# Altium footprint library son.PcbLib: 4 footprints
Each footprint in its own frame and in the unit in brackets; x right, y up, seen from the top. Pads: shape width x height; smd on the part's side, far side on the other; paste and mask are expansions set on the pad; w line width, h text height; cw(c..) or ccw(c..) is an arc to the next point about the centre after c.
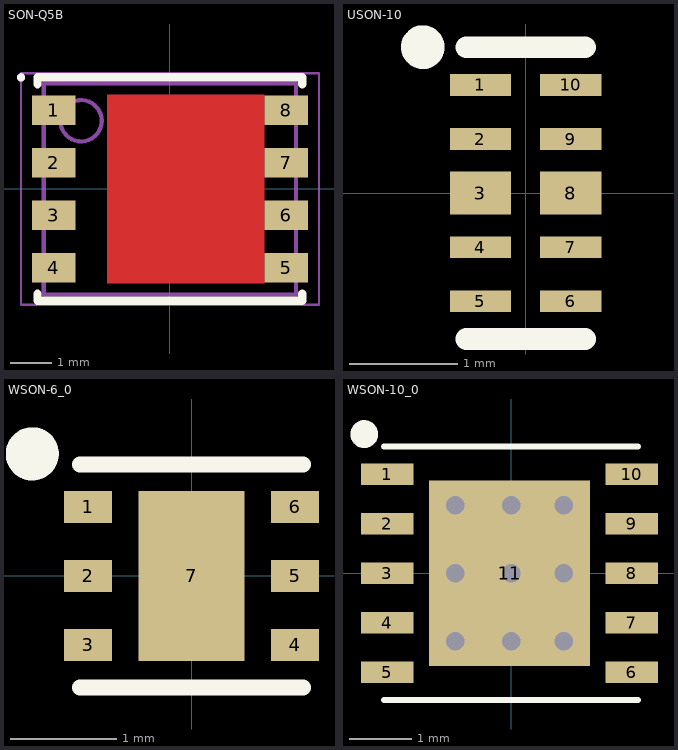
[diagram p0: the footprints below, top view; thin cyan lines are the x and y axes]

## SON-Q5B [mm] "SON, 8-Leads, Body 5.00x6.00mm, Pitch 1.27mm, IPC Medium Density"
height 1.05
pads (8):
  rect 1.05x0.71 smd: 1(-2.81,1.905) 2(-2.81,0.635) 3(-2.81,-0.635) 4(-2.81,-1.905) 5(2.81,-1.905) 6(2.81,-0.635) 7(2.81,0.635) 8(2.81,1.905)
Top Layer:
  rectangle: -1.524,-2.286 2.286,2.286
Top Overlay:
  circle w0.1: c-3.6,2.7 r0.05
  lines w0.2: -3.2,-2.53 -3.2,-2.7 3.2,-2.7 3.2,-2.53 ; -3.2,2.53 -3.2,2.7 3.2,2.7 3.2,2.53
Top Solder:
  rectangle: -1.651,-2.413 2.413,2.413
Mechanical 13:
  circle w0.1: c-2.15,1.65 r0.5
  lines w0.1: -3.05,-2.55 -3.05,2.55 3.05,2.55 3.05,-2.55 -3.05,-2.55
Mechanical 15:
  lines w0.05: -3.605,-2.8 -3.605,2.8 3.605,2.8 3.605,-2.8 -3.605,-2.8
  lines w0.1: -0.5,0 0.5,0 ; 0,-0.5 0,0.5
3D body: height 1.05, standoff 0, extent -3.05,-2.55 3.05,2.55

## USON-10 [mm] "USON-10"
pads (10):
  rect 0.565x0.2 smd mask+0.05: 1(-0.418,1) 2(-0.418,0.5) 4(-0.418,-0.5) 5(-0.418,-1) 6(0.418,-1) 7(0.418,-0.5) 9(0.418,0.5) 10(0.418,1)
  rect 0.565x0.4 smd mask+0.05: 3(-0.418,0) 8(0.418,0)
Top Overlay:
  circle w0.254: c-0.95,1.35 r0.075
  lines w0.2: -0.55,-1.35 0.55,-1.35 ; -0.55,1.35 0.55,1.35
3D body: height 0.55, standoff 0, extent -0.55,-1.3 0.55,1.3

## WSON-6_0 [mm]
pads (7):
  rect 0.45x0.3 smd mask+0.06: 1(-0.975,0.65) 2(-0.975,0) 3(-0.975,-0.65) 4(0.975,-0.65) 5(0.975,0) 6(0.975,0.65)
  rect 1x1.6 smd mask+0.06: 7(0,0)
Top Overlay:
  circle w0.25: c-1.5,1.15 r0.125
  lines w0.15: -1.05,-1.05 1.05,-1.05 ; -1.05,1.05 1.05,1.05
3D body: height 0.8, standoff 0, extent -1.05,-1.05 1.05,1.05

## WSON-10_0 [mm]
pads (11):
  rect 0.85x0.35 smd mask+0.07: 1(-2,1.6) 2(-2,0.8) 3(-2,0) 4(-2,-0.8) 5(-2,-1.6) 6(1.95,-1.6) 7(1.95,-0.8) 8(1.95,0) 9(1.95,0.8) 10(1.95,1.6)
  rect 2.6x3 smd mask+0.07: 11(-0.025,0)
via 0,-1.1 diameter 0.6 hole 0.3
via 0.85,-1.1 diameter 0.6 hole 0.3
via -0.9,-1.1 diameter 0.6 hole 0.3
via 0,0 diameter 0.6 hole 0.3
via 0.85,0 diameter 0.6 hole 0.3
via -0.9,0 diameter 0.6 hole 0.3
via -0.9,1.1 diameter 0.6 hole 0.3
via 0.85,1.1 diameter 0.6 hole 0.3
via 0,1.1 diameter 0.6 hole 0.3
Top Overlay:
  circle w0.25: c-2.375,2.25 r0.1
  lines w0.1: -2.05,-2.05 2.05,-2.05 ; -2.05,2.05 2.05,2.05
3D body: height 0.8, standoff 0, extent -2.05,-2.05 2.05,2.05